# EAGLE library part ?6B-XH (library con-jst-xh)
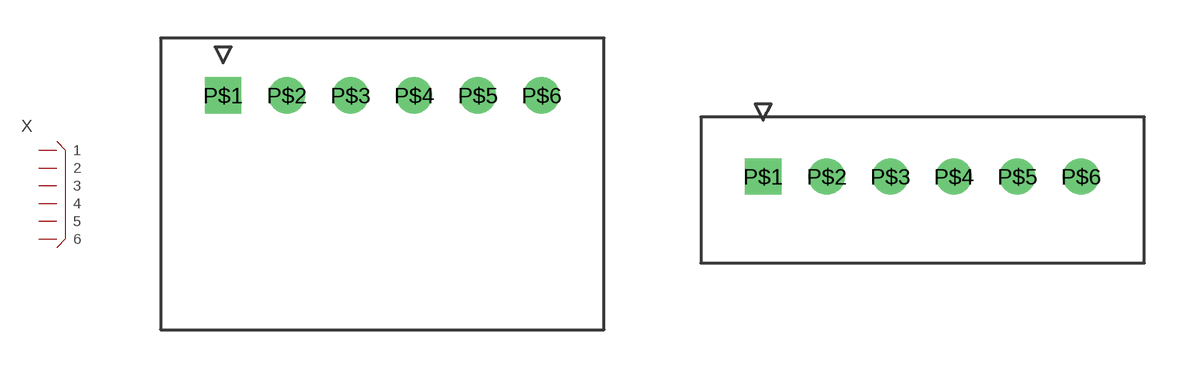
[diagram p0: symbol with the pads of S6B-XH; footprints S6B-XH, B6B-XH]

Designator prefix X

## S6B-XH  [S6B-XH]
P$1  1
P$2  2
P$3  3
P$4  4
P$5  5
P$6  6

## B6B-XH  [B6B-XH]
Pads as for S6B-XH

## Footprint S6B-XH (pad centres in mm)
drill 0.9 pad 1.422 square: P$1 0,0
drill 0.9 pad 1.422: P$2 2.5,0; P$3 5,0; P$4 7.5,0; P$5 10,0; P$6 12.5,0

## Footprint B6B-XH (pad centres in mm)
drill 0.9 pad 1.422 square: P$1 0,0
drill 0.9 pad 1.422: P$2 2.5,0; P$3 5,0; P$4 7.5,0; P$5 10,0; P$6 12.5,0